# Altium footprint library INDC1608X95N.PcbLib: 5 footprints
Each footprint in its own frame and in the unit in brackets; x right, y up, seen from the top. Pads: shape width x height; smd on the part's side, far side on the other; paste and mask are expansions set on the pad; w line width, h text height; cw(c..) or ccw(c..) is an arc to the next point about the centre after c.
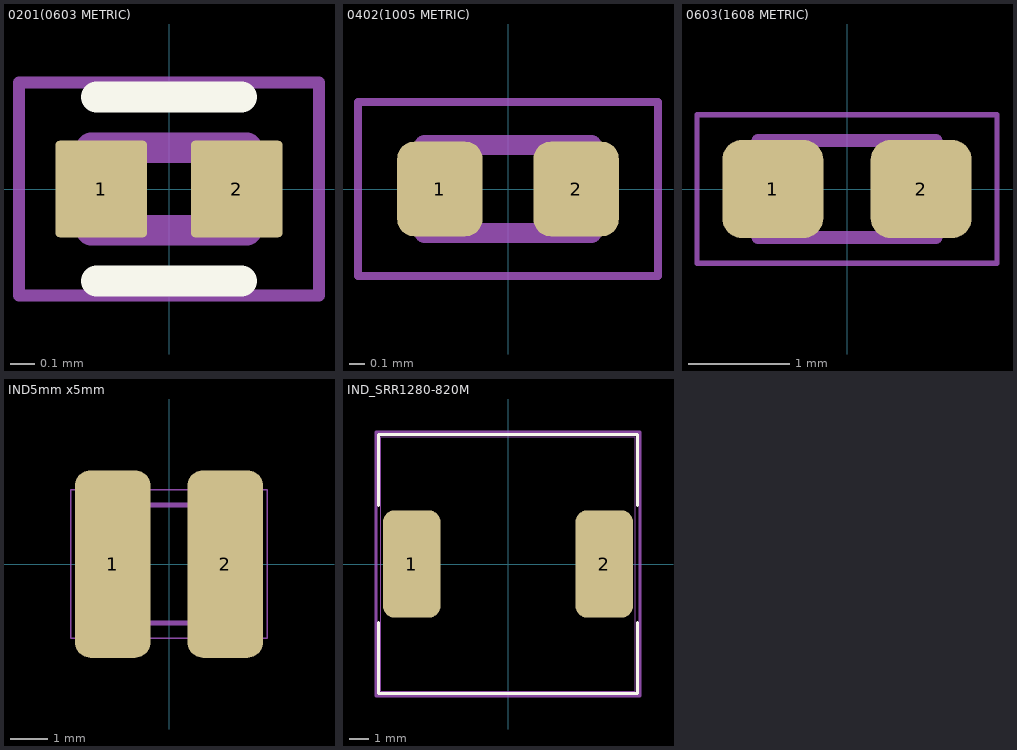
[diagram p0: the footprints below, top view; thin cyan lines are the x and y axes]

## 0201(0603 METRIC) [mm]
pads (2):
  rrect10% 0.38x0.4 smd: 1(-0.28,0) 2(0.28,0)
Top Overlay:
  lines w0.127: -0.3,-0.38 0.3,-0.38 ; -0.3,0.38 0.3,0.38
Mechanical 13:
  lines w0.127: -0.32,-0.17 -0.32,0.17 0.32,0.17 0.32,-0.17 -0.32,-0.17
Mechanical 15:
  lines w0.05: -0.62,-0.44 -0.62,0.44 0.62,0.44 0.62,-0.44 -0.62,-0.44
3D body "LQP03TG3N9C02D.STEP": height 0.33, standoff 0, extent -0.3,-0.15 0.3,0.15

## 0402(1005 METRIC) [mm]
pads (2):
  rrect40% 0.54x0.6 smd: 1(-0.432,0) 2(0.432,0)
Mechanical 13:
  lines w0.127: -0.53,-0.28 0.53,-0.28 0.53,0.28 -0.53,0.28 -0.53,-0.28
Mechanical 15:
  lines w0.05: -0.95,-0.55 0.95,-0.55 0.95,0.55 -0.95,0.55 -0.95,-0.55
3D body "AIMC-0402-12NJ-T.STEP": height 0.5, standoff 0, extent -0.5,-0.25 0.5,0.25

## 0603(1608 METRIC) [mm]
pads (2):
  rrect40% 1x0.97 smd: 1(-0.735,0) 2(0.735,0)
Mechanical 13:
  lines w0.127: -0.88,-0.48 0.88,-0.48 0.88,0.48 -0.88,0.48 -0.88,-0.48
Mechanical 15:
  lines w0.05: -1.485,-0.735 1.485,-0.735 1.485,0.735 -1.485,0.735 -1.485,-0.735
3D body "LQW18AN3N9C80D.STEP": height 1, standoff 0, extent -0.825,-0.495 0.825,0.495

## IND5mm x5mm [mil]
pads (2):
  rrect40% 80.71x200 smd: 1(-60,0) 2(60,0)
Mechanical 13:
  lines w5: -88.58,-62.99 -88.58,62.99 88.58,62.99 88.58,-62.99 -88.58,-62.99
Mechanical 15:
  lines w1.97: -104.72,-79.13 -104.72,79.13 104.72,79.13 104.72,-79.13 -104.72,-79.13
3D body "step_temp.STEP": height 98.43, standoff -3.94, extent -88.58,-62.99 88.58,62.99

## IND_SRR1280-820M [mil]
pads (2):
  rrect40% 114x213 smd paste+0 mask+0: 1(-191,0) 2(191,0)
Top Overlay:
  lines w6: -257,-116.02 -257,-257 257,-257 257,-116.02 ; -257,116.02 -257,257 257,257 257,116.02
Mechanical 13:
  lines w1: -252,-252 -252,252 252,252 252,-252 -252,-252
Mechanical 15:
  lines w6: -262,-262 262,-262 262,-116.5 262,116.5 262,262 -262,262 -262,116.5 -262,-116.5 -262,-262
3D body "srr1280-820m.stp": height 295.28, standoff 0, extent -246.06,-246.06 246.07,246.07